# EAGLE library part AT91SAM7S (library jt-atmel-arm)
Atmel AT91SAM7Sx 64-pin TQFP ARM7
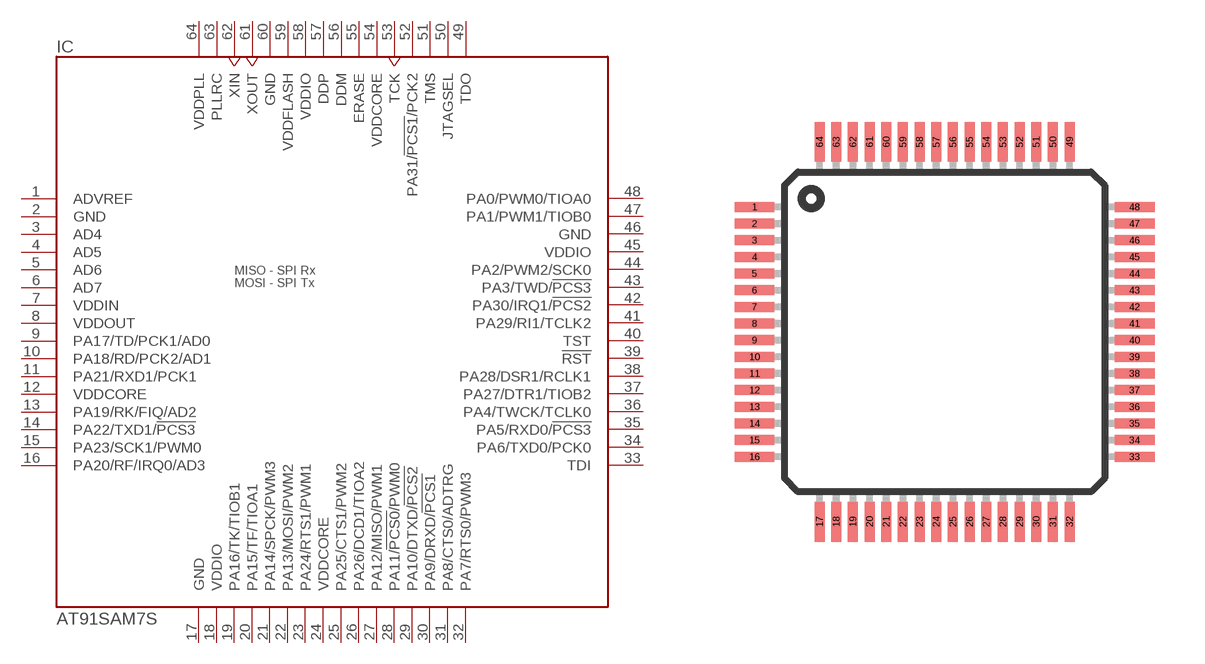
[diagram p2: symbol with the pads of TQFP64-10X10; footprint TQFP64-10X10]

Designator prefix IC

## AT91SAM7S64 (FLASH: 64K), AT91SAM7S256 (FLASH: 256K), AT91SAM7S321 (FLASH: 32K), AT91SAM7S512 (FLASH: 512K)  [TQFP64-10X10]
1  ADVREF
2  GND  pwr
3  AD4
4  AD5
5  AD6
6  AD7
7  VDDIN  pwr
8  VDDOUT  pwr
9  PA17/TD/PCK1/AD0
10  PA18/RD/PCK2/AD1
11  PA21/RXD1/PCK1
12  VDDCORE  pwr
13  PA19/RK/FIQ/AD2
14  PA22/TXD1/!PCS3
15  PA23/SCK1/PWM0
16  PA20/RF/IRQ0/AD3
17  GND  pwr
18  VDDIO  pwr
19  PA16/TK/TIOB1
20  PA15/TF/TIOA1
21  PA14/SPCK/PWM3
22  PA13/MOSI/PWM2
23  PA24/RTS1/PWM1
24  VDDCORE  pwr
25  PA25/CTS1/PWM2
26  PA26/DCD1/TIOA2
27  PA12/MISO/PWM1
28  PA11/!PCS0!/PWM0
29  PA10/DTXD/!PCS2
30  PA9/DRXD/!PCS1
31  PA8/CTS0/ADTRG
32  PA7/RTS0/PWM3
33  TDI
34  PA6/TXD0/PCK0
35  PA5/RXD0/!PCS3
36  PA4/TWCK/TCLK0
37  PA27/DTR1/TIOB2
38  PA28/DSR1/RCLK1
39  !RST
40  TST
41  PA29/RI1/TCLK2
42  PA30/IRQ1/!PCS2
43  PA3/TWD/!PCS3
44  PA2/PWM2/SCK0
45  VDDIO  pwr
46  GND  pwr
47  PA1/PWM1/TIOB0
48  PA0/PWM0/TIOA0
49  TDO
50  JTAGSEL
51  TMS
52  PA31/!PCS1!/PCK2
53  TCK
54  VDDCORE  pwr
55  ERASE
56  DDM
57  DDP
58  VDDIO  pwr
59  VDDFLASH  pwr
60  GND  pwr
61  XOUT
62  XIN
63  PLLRC
64  VDDPLL  pwr

## Footprint TQFP64-10X10 (pad centres in mm)
Thin Quad Flat Pack package type TQ
smd 1.2 x 0.3: 1 -5.7,3.75; 2 -5.7,3.25; 3 -5.7,2.75; 4 -5.7,2.25; 5 -5.7,1.75; 6 -5.7,1.25; 7 -5.7,0.75; 8 -5.7,0.25; 9 -5.7,-0.25; 10 -5.7,-0.75; 11 -5.7,-1.25; 12 -5.7,-1.75; 13 -5.7,-2.25; 14 -5.7,-2.75; 15 -5.7,-3.25; 16 -5.7,-3.75; 33 5.7,-3.75; 34 5.7,-3.25; 35 5.7,-2.75; 36 5.7,-2.25; 37 5.7,-1.75; 38 5.7,-1.25; 39 5.7,-0.75; 40 5.7,-0.25; 41 5.7,0.25; 42 5.7,0.75; 43 5.7,1.25; 44 5.7,1.75; 45 5.7,2.25; 46 5.7,2.75; 47 5.7,3.25; 48 5.7,3.75
smd 0.3 x 1.2: 17 -3.75,-5.7; 18 -3.25,-5.7; 19 -2.75,-5.7; 20 -2.25,-5.7; 21 -1.75,-5.7; 22 -1.25,-5.7; 23 -0.75,-5.7; 24 -0.25,-5.7; 25 0.25,-5.7; 26 0.75,-5.7; 27 1.25,-5.7; 28 1.75,-5.7; 29 2.25,-5.7; 30 2.75,-5.7; 31 3.25,-5.7; 32 3.75,-5.7; 49 3.75,5.7; 50 3.25,5.7; 51 2.75,5.7; 52 2.25,5.7; 53 1.75,5.7; 54 1.25,5.7; 55 0.75,5.7; 56 0.25,5.7; 57 -0.25,5.7; 58 -0.75,5.7; 59 -1.25,5.7; 60 -1.75,5.7; 61 -2.25,5.7; 62 -2.75,5.7; 63 -3.25,5.7; 64 -3.75,5.7